# EAGLE library part MC10170 (library ecl)
ECL DEVICE
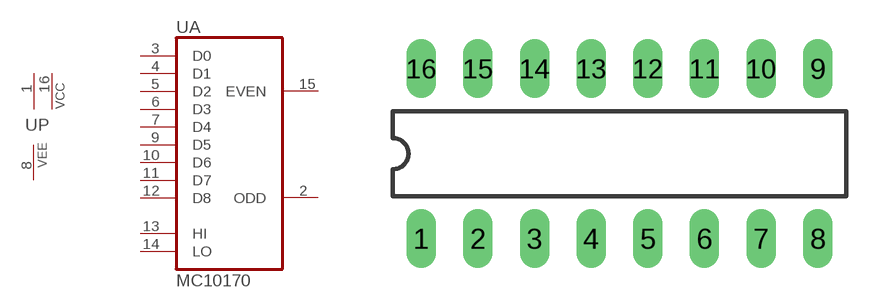
[diagram p23: symbol with the pads of DIL16; footprint DIL16]

Designator prefix U; gates A=MC10170 P=2VCC1VEE

## MC10170  [DIL16]
1  P:VCC  pwr
2  A:ODD  out
3  A:D0  in
4  A:D1  in
5  A:D2  in
6  A:D3  in
7  A:D4  in
8  P:VEE  pwr
9  A:D5  in
10  A:D6  in
11  A:D7  in
12  A:D8  in
13  A:HI  in
14  A:LO  in
15  A:EVEN  out
16  P:VCC  pwr

## Footprint DIL16 (pad centres in mm)
Dual In Line Package
drill 0.813 long: 1 -8.89,-3.81; 2 -6.35,-3.81; 3 -3.81,-3.81; 4 -1.27,-3.81; 5 1.27,-3.81; 6 3.81,-3.81; 7 6.35,-3.81; 8 8.89,-3.81; 9 8.89,3.81; 10 6.35,3.81; 11 3.81,3.81; 12 1.27,3.81; 13 -1.27,3.81; 14 -3.81,3.81; 15 -6.35,3.81; 16 -8.89,3.81